# Altium footprint library STH315N10F72.PcbLib: 1 footprints
Each footprint in its own frame and in the unit in brackets; x right, y up, seen from the top. Pads: shape width x height; smd on the part's side, far side on the other; paste and mask are expansions set on the pad; w line width, h text height; cw(c..) or ccw(c..) is an arc to the next point about the centre after c.
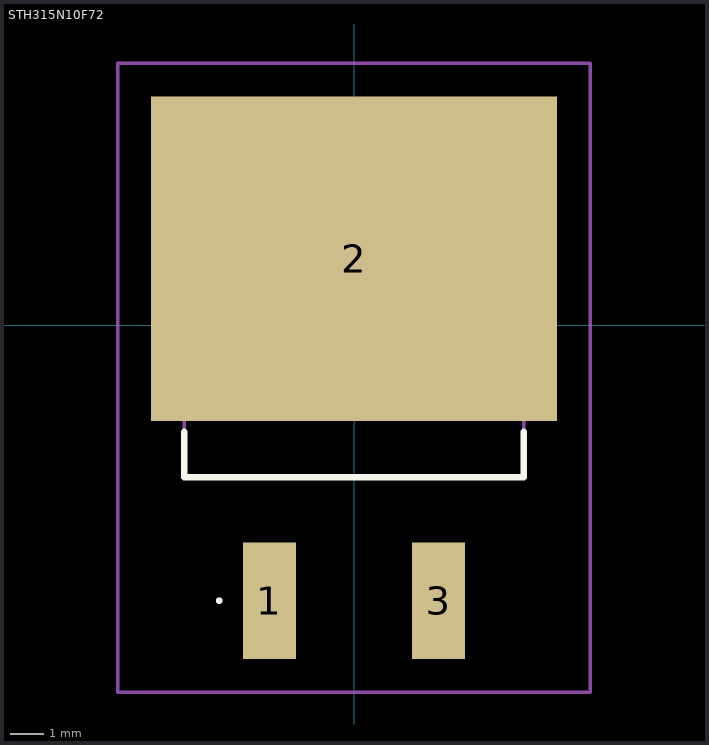
[diagram p0: the footprint, top view; thin cyan lines are the x and y axes]

## STH315N10F72 [mm]
pads (3):
  rect 1.6x3.5 smd: 1(-2.54,-8.28) 3(2.54,-8.28)
  rect 12.2x9.75 smd: 2(0,1.995)
Top Overlay:
  lines w0.1: -4.1,-8.28 cw(c-4.05,-8.28) -4,-8.28 ; -4.1,-8.28 -4.1,-8.28 ; -4.1,-8.28 ccw(c-4.05,-8.28) -4,-8.28 ; -4,-8.28 -4,-8.28
  lines w0.2: -5.1,-3.2 -5.1,-4.575 5.1,-4.575 5.1,-3.2
Mechanical 15:
  lines w0.1: -5.1,-4.575 5.1,-4.575 5.1,4.575 -5.1,4.575 -5.1,-4.575
Mechanical 20:
  lines w0.1: -7.1,-11.03 7.1,-11.03 7.1,7.87 -7.1,7.87 -7.1,-11.03